# Altium footprint library IRLR6225.PcbLib: 1 footprints
Each footprint in its own frame and in the unit in brackets; x right, y up, seen from the top. Pads: shape width x height; smd on the part's side, far side on the other; paste and mask are expansions set on the pad; w line width, h text height; cw(c..) or ccw(c..) is an arc to the next point about the centre after c.
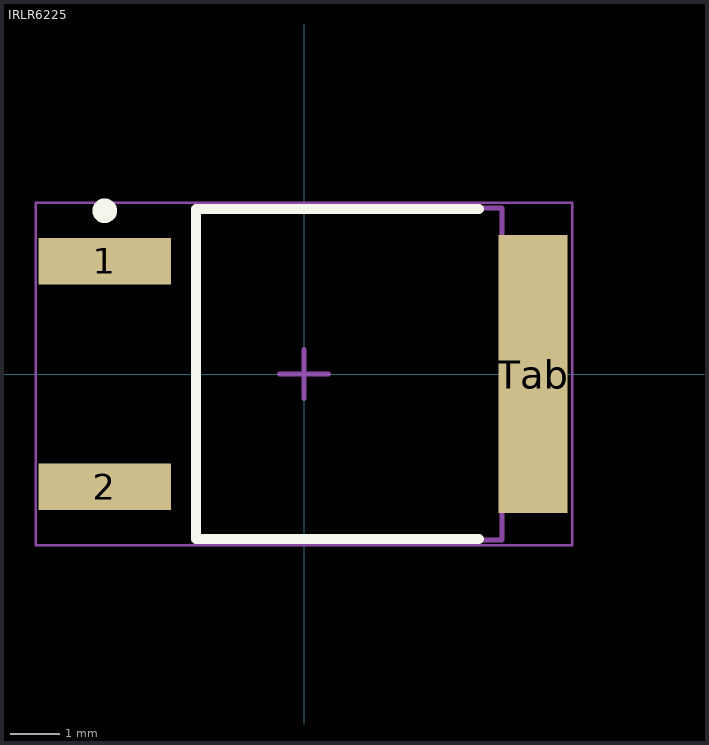
[diagram p0: the footprint, top view; thin cyan lines are the x and y axes]

## IRLR6225 [mm] "D-PAK, 3-Pads, Body 6.21x6.73mm (max), IPC High Density"
height 2.38
pads (3):
  rect 2.7x0.95 smd: 1(-4.05,2.29) 2(-4.05,-2.29)
  rect 1.4x5.65 smd: Tab(4.65,0)
Top Overlay:
  circle w0.25: c-4.05,3.315 r0.125
  lines w0.2: 3.55,-3.35 -2.2,-3.35 -2.2,3.35 3.55,3.35
Mechanical 13:
  lines w0.1: -2.2,-3.375 -2.2,3.375 4.02,3.375 4.02,-3.375 -2.2,-3.375
Mechanical 15:
  lines w0.05: -5.45,-3.475 -5.45,3.475 5.45,3.475 5.45,-3.475 -5.45,-3.475
  lines w0.1: -0.5,0 0.5,0 ; 0,-0.5 0,0.5
3D body: height 2.38, standoff 0.13, extent -2.2,-3.375 4.02,3.375